# Altium footprint library 电阻.PcbLib: 36 footprints (part 3 of 3)
Each footprint in its own frame and in the unit in brackets; x right, y up, seen from the top. Pads: shape width x height; smd on the part's side, far side on the other; paste and mask are expansions set on the pad; w line width, h text height; cw(c..) or ccw(c..) is an arc to the next point about the centre after c.
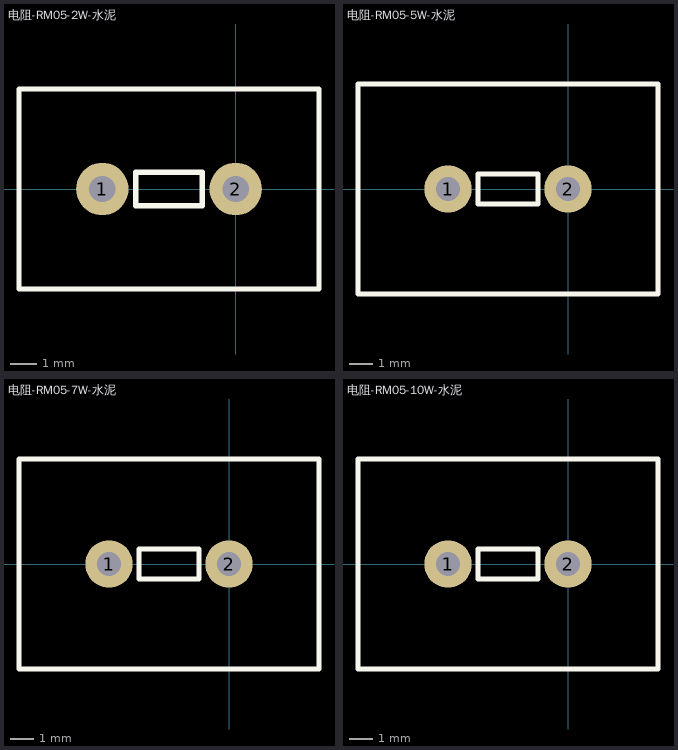
[diagram p2: the footprints below, top view; thin cyan lines are the x and y axes]

## 电阻-RM05-2W-水泥 [mm]
pads (2):
  round 2 hole 1: 1(-5.08,0) 2(0,0)
Top Overlay:
  lines w0.2: -8.255,-3.81 1.524,-3.81 3.175,-3.81 3.175,3.81 -8.255,3.81 -8.255,-3.81 ; -3.81,-0.635 -3.81,0.635 -1.27,0.635 -1.27,-0.635 -3.81,-0.635
3D body "User Library-Cement Power Resistor SQM-02 2W 10R.STEP": height 20.5, standoff -5, extent -8.29,-3.75 3.21,3.75

## 电阻-RM05-5W-水泥 [mm]
pads (2):
  round 2 hole 1: 1(-5.08,0) 2(0,0)
Top Overlay:
  lines w0.2: -8.89,-4.445 3.81,-4.445 3.81,4.445 -8.89,4.445 -8.89,-4.445 ; -3.81,-0.635 -3.81,0.635 -1.27,0.635 -1.27,-0.635 -3.81,-0.635
3D body "User Library-Cement Power Resistor SQM-05 5W 1K1.STEP": height 25, standoff -5, extent -8.79,-4.5 3.71,4.5

## 电阻-RM05-7W-水泥 [mm]
pads (2):
  round 2 hole 1: 1(-5.08,0) 2(0,0)
Top Overlay:
  lines w0.2: -8.89,-4.445 3.81,-4.445 3.81,4.445 -8.89,4.445 -8.89,-4.445 ; -3.81,-0.635 -3.81,0.635 -1.27,0.635 -1.27,-0.635 -3.81,-0.635
3D body "User Library-Cement Power Resistor SQM-07 7W 1K.STEP": height 39, standoff -5, extent -8.79,-4.5 3.71,4.5

## 电阻-RM05-10W-水泥 [mm]
pads (2):
  round 2 hole 1: 1(-5.08,0) 2(0,0)
Top Overlay:
  lines w0.2: -8.89,-4.445 -8.89,4.445 3.81,4.445 3.81,-4.445 -8.89,-4.445 ; -3.81,-0.635 -1.27,-0.635 -1.27,0.635 -3.81,0.635 -3.81,-0.635
3D body "User Library-Cement Power Resistor SQM-10 10W 10K.STEP": height 51, standoff -5, extent -8.79,-4.5 3.71,4.5